# Altium integrated library ZMDI Sensor Signal Conditioner.IntLib: 63 symbols (part 3 of 3)
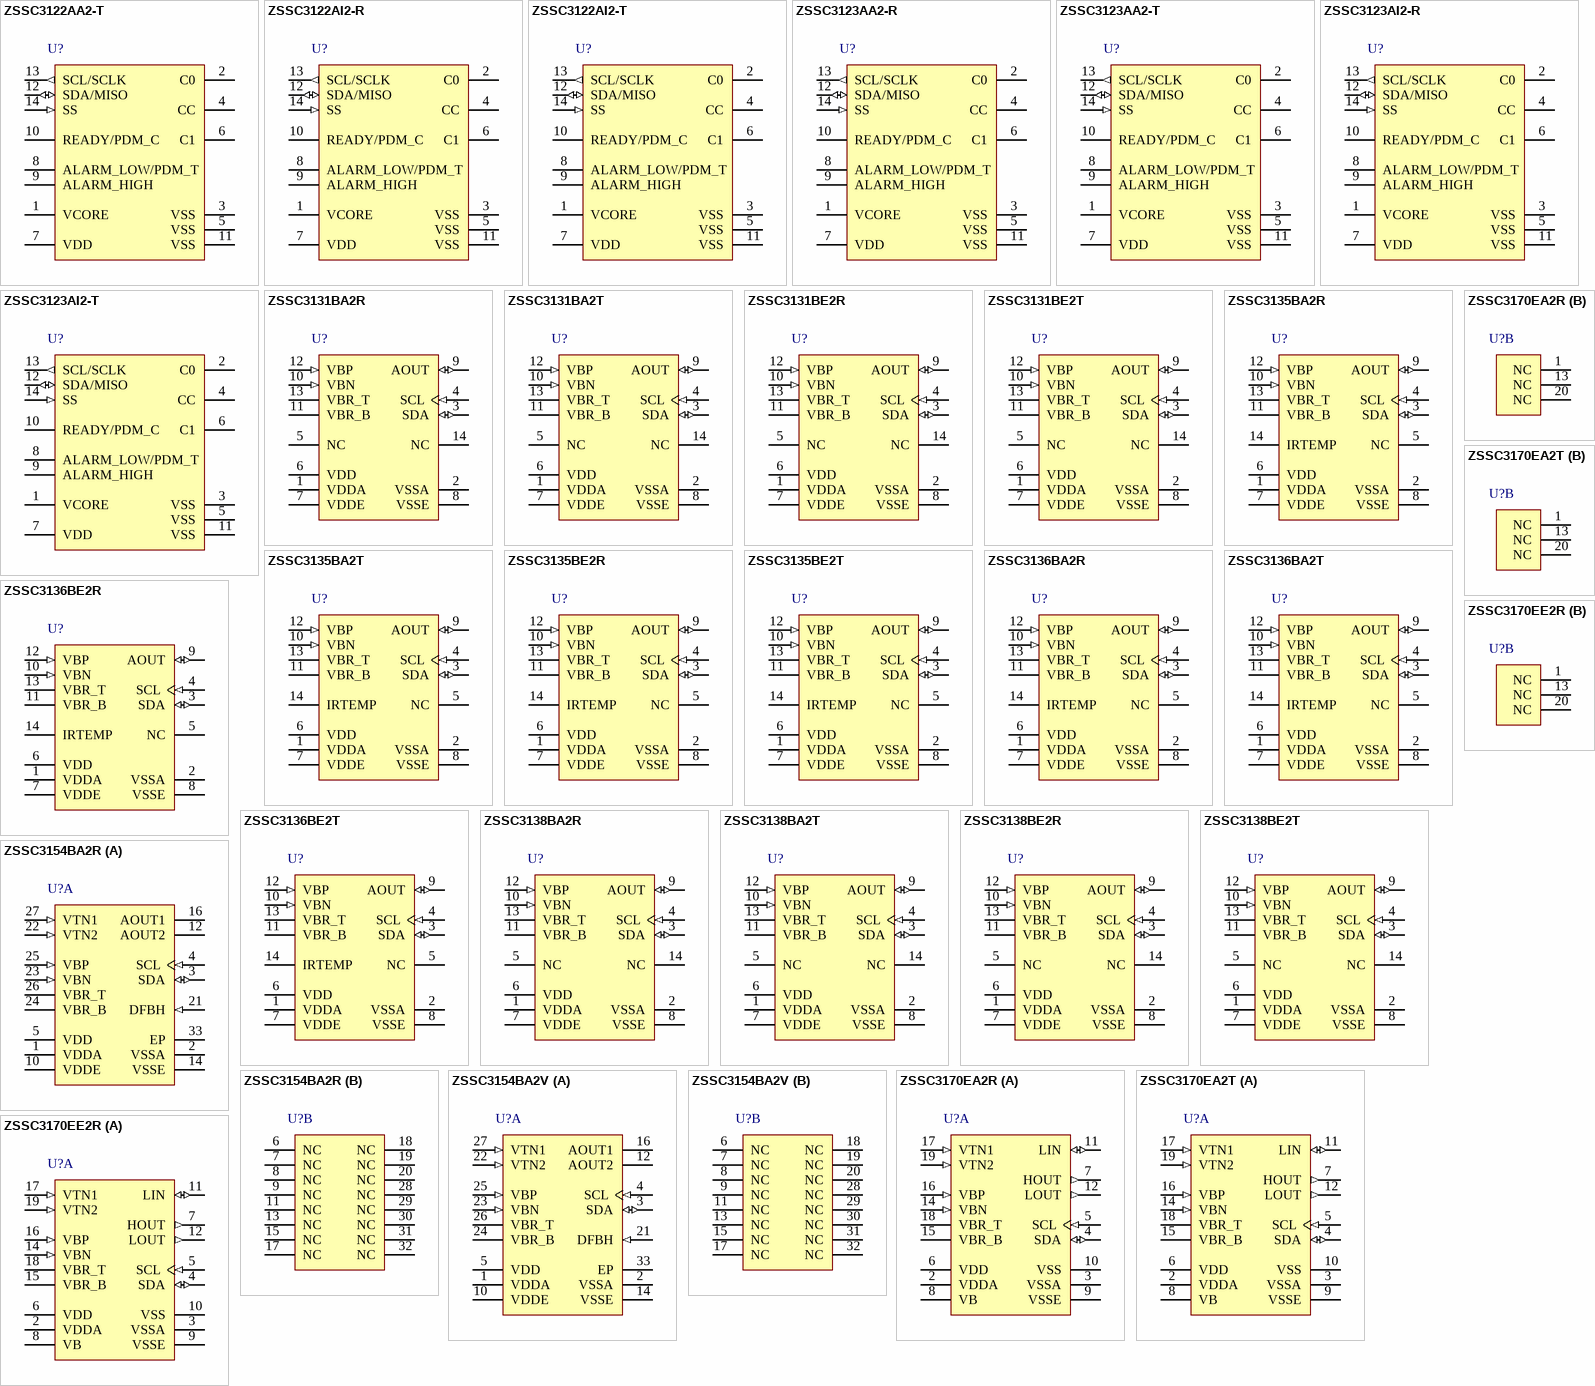
[diagram p4: symbols ZSSC3122AA2-T to ZSSC3170EE2R]

## ZSSC3138BE2T
designator U?
Sensor Signal Conditioner for Ceramic Sensor Applications, 4.5 to 5.5 V Supply Voltage, -40 to 150 degC, 14-Pin SSOP, Tube, RoHS; Manufacturer: ZMDI; PartNumber: ZSSC3138BE2T; ADC Resolution: 16; Adjustable Analog Gain Values: 2.8 to 420; DatasheetVersion: Rev. 1.21; PackageReference: SSOP14; PackageDescription: 14-Pin Shrink Small Outline Package, 6.2 x 5.29 mm Body, 0.65 mm Pitch; Supplier 1: Mouser; Supplier Part Number 1: 964-ZSSC3138BE2T; Mounting Technology: Surface Mount; ComponentLink1Description: Manufacturer URL; ComponentLink1URL: http://www.zmdi.com/; ComponentLink2Description: Datasheet; ComponentLink2URL: http://zmdi.cdistore.com/datasheets/zmdi/ZSSC3138_Data_Sheet_Rev_1_21_2013-02-15.pdf; ComponentLink3Description: Package Specification; ComponentLink3URL: http://zmdi.cdistore.com/datasheets/zmdi/ZSC31150_Data_Sheet_Rev_2_00_2012-10-15.pdf
footprint ZMDI-SSOP14_N (SOP, 14-Leads, Body 6.3x5.4mm, Pitch 0.65mm, IPC Medium Density)
footprint ZMDI-SSOP14_L (SOP, 14-Leads, Body 6.3x5.4mm, Pitch 0.65mm, IPC High Density)
footprint ZMDI-SSOP14_M (SOP, 14-Leads, Body 6.3x5.4mm, Pitch 0.65mm, IPC Low Density)
pins: 1 VDDA (power) "Positive Analog Supply Voltage", 2 VSSA (power) "Negative Analog Supply Voltage", 3 SDA (io) "I2C(TM) Serial Data", 4 SCL (in) "I2C(TM) Clock", 5 NC "Not connected", 6 VDD (power) "Positive Digital Supply Voltage", 7 VDDE (power) "Positive External Supply Voltage", 8 VSSE (power) "Negative External Supply Voltage", 9 AOUT (io) "Analog Output and ZACwire(TM) Serial Data", 10 VBN (in) "Negative Input from Sensor Bridge", 11 VBR_B (power) "Negative Sensor Bridge Supply Voltage", 12 VBP (in) "Positive Input from Sensor Bridge", 13 VBR_T (power) "Positive Sensor Bridge Supply Voltage", 14 NC "Not connected"

## ZSSC3154BA2R
designator U?
Automotive Sensor Signal Conditioner with Dual Analog Output, 4.5 to 5.5 V Supply Voltage, -40 to 125 degC, 32-Pin QFN, Reel, RoHS; Manufacturer: ZMDI; PartNumber: ZSSC3154BA2R; ADC Resolution: 14; Adjustable Analog Gain Values: 2.8 to 420; DatasheetVersion: Rev. 1.30; PackageReference: QFN32; PackageDescription: 32-Pin Plastic Quad Flatpack, No Leads, 5 x 5 mm Body, 0.5 mm Pitch, 3.5 x 3.5 mm Exposed Pad; Supplier 1: Mouser; Supplier Part Number 1: 964-ZSSC3154BA2R; Mounting Technology: Surface Mount; ComponentLink1Description: Manufacturer URL; ComponentLink1URL: http://www.zmdi.com/; ComponentLink2Description: Datasheet; ComponentLink2URL: http://zmdi.cdistore.com/datasheets/zmdi/ZSSC3154_Data_Sheet_Rev_1_30_2013-08-29-B.pdf; ComponentLink3Description: Package Specification; ComponentLink3URL: http://zmdi.cdistore.com/datasheets/zmdi/ZSSC3154_Data_Sheet_Rev_1_30_2013-08-29-B.pdf
footprint ZMDI-QFN32_N (QFN, 32-Leads, Body 5.1x5.1mm, Pitch 0.5mm, Thermal Pad 3.5x3.5mm, IPC Medium Density)
footprint ZMDI-QFN32_L (QFN, 32-Leads, Body 5.1x5.1mm, Pitch 0.5mm, Thermal Pad 3.5x3.5mm, IPC High Density)
footprint ZMDI-QFN32_M (QFN, 32-Leads, Body 5.1x5.1mm, Pitch 0.5mm, Thermal Pad 3.5x3.5mm, IPC Low Density)
part A pins: 1 VDDA (power) "Positive Analog Supply Voltage", 2 VSSA (power) "Negative Analog Supply Voltage", 3 SDA (io) "I2C Data I/O", 4 SCL (in) "I2C Clock", 5 VDD (power) "Positive Digital Supply Voltage", 10 VDDE (power) "Positive External Supply Voltage", 12 AOUT2 (hiz) "Analog Output 2", 14 VSSE (power) "External Ground", 16 AOUT1 (hiz) "Analog Output 1", 21 DFBH (in) "Diagnostic Fault Band Mode Select", 22 VTN2 (in) "External Temperature Sensor 2", 23 VBN (in) "Negative Bridge Sensor Input", 24 VBR_B (power) "Negative Bridge Supply Voltage (Bottom)", 25 VBP (in) "Positive Bridge Sensor Input", 26 VBR_T (power) "Positive Bridge Supply Voltage (Top)", 27 VTN1 (in) "External Temperature Sensor 1", 33 EP (power)
part B pins: 6 NC, 7 NC, 8 NC, 9 NC, 11 NC, 13 NC, 15 NC, 17 NC, 18 NC, 19 NC, 20 NC, 28 NC, 29 NC, 30 NC, 31 NC, 32 NC

## ZSSC3154BA2V
designator U?
Automotive Sensor Signal Conditioner with Dual Analog Output, 4.5 to 5.5 V Supply Voltage, -40 to 125 degC, 32-Pin QFN, Tray, RoHS; Manufacturer: ZMDI; PartNumber: ZSSC3154BA2V; ADC Resolution: 14; Adjustable Analog Gain Values: 2.8 to 420; DatasheetVersion: Rev. 1.30; PackageReference: QFN32; PackageDescription: 32-Pin Plastic Quad Flatpack, No Leads, 5 x 5 mm Body, 0.5 mm Pitch, 3.5 x 3.5 mm Exposed Pad; Supplier 1: Mouser; Supplier Part Number 1: 964-ZSSC3154BA2V; Mounting Technology: Surface Mount; ComponentLink1Description: Manufacturer URL; ComponentLink1URL: http://www.zmdi.com/; ComponentLink2Description: Datasheet; ComponentLink2URL: http://zmdi.cdistore.com/datasheets/zmdi/ZSSC3154_Data_Sheet_Rev_1_30_2013-08-29-B.pdf; ComponentLink3Description: Package Specification; ComponentLink3URL: http://zmdi.cdistore.com/datasheets/zmdi/ZSSC3154_Data_Sheet_Rev_1_30_2013-08-29-B.pdf
footprint ZMDI-QFN32_N (QFN, 32-Leads, Body 5.1x5.1mm, Pitch 0.5mm, Thermal Pad 3.5x3.5mm, IPC Medium Density)
footprint ZMDI-QFN32_L (QFN, 32-Leads, Body 5.1x5.1mm, Pitch 0.5mm, Thermal Pad 3.5x3.5mm, IPC High Density)
footprint ZMDI-QFN32_M (QFN, 32-Leads, Body 5.1x5.1mm, Pitch 0.5mm, Thermal Pad 3.5x3.5mm, IPC Low Density)
part A pins: 1 VDDA (power) "Positive Analog Supply Voltage", 2 VSSA (power) "Negative Analog Supply Voltage", 3 SDA (io) "I2C Data I/O", 4 SCL (in) "I2C Clock", 5 VDD (power) "Positive Digital Supply Voltage", 10 VDDE (power) "Positive External Supply Voltage", 12 AOUT2 (hiz) "Analog Output 2", 14 VSSE (power) "External Ground", 16 AOUT1 (hiz) "Analog Output 1", 21 DFBH (in) "Diagnostic Fault Band Mode Select", 22 VTN2 (in) "External Temperature Sensor 2", 23 VBN (in) "Negative Bridge Sensor Input", 24 VBR_B (power) "Negative Bridge Supply Voltage (Bottom)", 25 VBP (in) "Positive Bridge Sensor Input", 26 VBR_T (power) "Positive Bridge Supply Voltage (Top)", 27 VTN1 (in) "External Temperature Sensor 1", 33 EP (power)
part B pins: 6 NC, 7 NC, 8 NC, 9 NC, 11 NC, 13 NC, 15 NC, 17 NC, 18 NC, 19 NC, 20 NC, 28 NC, 29 NC, 30 NC, 31 NC, 32 NC

## ZSSC3170EA2R
designator U?
Automotive Sensor Signal Conditioner with LIN and PWM Interface, 7 to18 V Supply Voltage, -40 to 125 degC, 20-Pin SSOP, Reel, RoHS; Manufacturer: ZMDI; PartNumber: ZSSC3170EA2R; ADC Resolution: 14; Adjustable Analog Gain Values: 2.8 to 420; DatasheetVersion: Rev. 2.40; PackageReference: SSOP20; PackageDescription: 20-Pin Shrink Small Outline Package, 7.2 x 5.29 mm Body, 0.65 mm Pitch; Supplier 1: Mouser; Supplier Part Number 1: 964-ZSSC3170EA2-R; Mounting Technology: Surface Mount; ComponentLink1Description: Manufacturer URL; ComponentLink1URL: http://www.zmdi.com/; ComponentLink2Description: Datasheet; ComponentLink2URL: http://www.zmdi.com/sites/default/files/ZSSC3170_Data_Sheet_Rev_2_40_2014-01-22.pdf; ComponentLink3Description: Package Specification; ComponentLink3URL: http://www.zmdi.com/sites/default/files/ZSSC3170_Data_Sheet_Rev_2_40_2014-01-22.pdf
footprint ZMDI-SSOP20_N (SOP, 20-Leads, Body 7.3x5.4mm, Pitch 0.65mm, IPC Medium Density)
footprint ZMDI-SSOP20_L (SOP, 20-Leads, Body 7.3x5.4mm, Pitch 0.65mm, IPC High Density)
footprint ZMDI-SSOP20_M (SOP, 20-Leads, Body 7.3x5.4mm, Pitch 0.65mm, IPC Low Density)
part A pins: 2 VDDA (power) "Positive Analog Supply Voltage", 3 VSSA (power) "Negative Analog Supply Voltage", 4 SDA (io) "I2C(TM) Data I/O", 5 SCL (in) "I2C(TM) Clock", 6 VDD (power) "Positive Digital Supply Voltage", 7 HOUT (out) "PWM High-Side Switch", 8 VB (power) "Positive External Supply Voltage", 9 VSSE (power) "External Ground (PWM Modes)", 10 VSS (power) "Ground (LIN Mode)", 11 LIN (io), 12 LOUT (out) "PWM Low-Side Switch", 14 VBN (in) "Negative Input Sensor Bridge", 15 VBR_B (power) "Negative (Bottom) Bridge Supply Voltage", 16 VBP (in) "Positive Input Sensor Bridge", 17 VTN1 (in) "Temperature Sensor 1", 18 VBR_T (power) "Positive (Top) Bridge Supply Voltage", 19 VTN2 (in) "Temperature Sensor 2"
part B pins: 1 NC "No connection", 13 NC "No connection", 20 NC "No connection"

## ZSSC3170EA2T
designator U?
Automotive Sensor Signal Conditioner with LIN and PWM Interface, 7 to18 V Supply Voltage, -40 to 125 degC, 20-Pin SSOP, Tube, RoHS; Manufacturer: ZMDI; PartNumber: ZSSC3170EA2T; ADC Resolution: 14; Adjustable Analog Gain Values: 2.8 to 420; DatasheetVersion: Rev. 2.40; PackageReference: SSOP20; PackageDescription: 20-Pin Shrink Small Outline Package, 7.2 x 5.29 mm Body, 0.65 mm Pitch; Supplier 1: Mouser; Supplier Part Number 1: 964-ZSSC3170EA2-T; Mounting Technology: Surface Mount; ComponentLink1Description: Manufacturer URL; ComponentLink1URL: http://www.zmdi.com/; ComponentLink2Description: Datasheet; ComponentLink2URL: http://www.zmdi.com/sites/default/files/ZSSC3170_Data_Sheet_Rev_2_40_2014-01-22.pdf; ComponentLink3Description: Package Specification; ComponentLink3URL: http://www.zmdi.com/sites/default/files/ZSSC3170_Data_Sheet_Rev_2_40_2014-01-22.pdf
footprint ZMDI-SSOP20_N (SOP, 20-Leads, Body 7.3x5.4mm, Pitch 0.65mm, IPC Medium Density)
footprint ZMDI-SSOP20_L (SOP, 20-Leads, Body 7.3x5.4mm, Pitch 0.65mm, IPC High Density)
footprint ZMDI-SSOP20_M (SOP, 20-Leads, Body 7.3x5.4mm, Pitch 0.65mm, IPC Low Density)
part A pins: 2 VDDA (power) "Positive Analog Supply Voltage", 3 VSSA (power) "Negative Analog Supply Voltage", 4 SDA (io) "I2C(TM) Data I/O", 5 SCL (in) "I2C(TM) Clock", 6 VDD (power) "Positive Digital Supply Voltage", 7 HOUT (out) "PWM High-Side Switch", 8 VB (power) "Positive External Supply Voltage", 9 VSSE (power) "External Ground (PWM Modes)", 10 VSS (power) "Ground (LIN Mode)", 11 LIN (io), 12 LOUT (out) "PWM Low-Side Switch", 14 VBN (in) "Negative Input Sensor Bridge", 15 VBR_B (power) "Negative (Bottom) Bridge Supply Voltage", 16 VBP (in) "Positive Input Sensor Bridge", 17 VTN1 (in) "Temperature Sensor 1", 18 VBR_T (power) "Positive (Top) Bridge Supply Voltage", 19 VTN2 (in) "Temperature Sensor 2"
part B pins: 1 NC "No connection", 13 NC "No connection", 20 NC "No connection"

## ZSSC3170EE2R
designator U?
Automotive Sensor Signal Conditioner with LIN and PWM Interface, 7 to18 V Supply Voltage, -40 to 150 degC, 20-Pin SSOP, Reel, RoHS; Manufacturer: ZMDI; PartNumber: ZSSC3170EE2R; ADC Resolution: 14; Adjustable Analog Gain Values: 2.8 to 420; DatasheetVersion: Rev. 2.40; PackageReference: SSOP20; PackageDescription: 20-Pin Shrink Small Outline Package, 7.2 x 5.29 mm Body, 0.65 mm Pitch; Supplier 1: Mouser; Supplier Part Number 1: 964-ZSSC3170EE2-R; Mounting Technology: Surface Mount; ComponentLink1Description: Manufacturer URL; ComponentLink1URL: http://www.zmdi.com/; ComponentLink2Description: Datasheet; ComponentLink2URL: http://www.zmdi.com/sites/default/files/ZSSC3170_Data_Sheet_Rev_2_40_2014-01-22.pdf; ComponentLink3Description: Package Specification; ComponentLink3URL: http://www.zmdi.com/sites/default/files/ZSSC3170_Data_Sheet_Rev_2_40_2014-01-22.pdf
footprint ZMDI-SSOP20_N (SOP, 20-Leads, Body 7.3x5.4mm, Pitch 0.65mm, IPC Medium Density)
footprint ZMDI-SSOP20_L (SOP, 20-Leads, Body 7.3x5.4mm, Pitch 0.65mm, IPC High Density)
footprint ZMDI-SSOP20_M (SOP, 20-Leads, Body 7.3x5.4mm, Pitch 0.65mm, IPC Low Density)
part A pins: 2 VDDA (power) "Positive Analog Supply Voltage", 3 VSSA (power) "Negative Analog Supply Voltage", 4 SDA (io) "I2C(TM) Data I/O", 5 SCL (in) "I2C(TM) Clock", 6 VDD (power) "Positive Digital Supply Voltage", 7 HOUT (out) "PWM High-Side Switch", 8 VB (power) "Positive External Supply Voltage", 9 VSSE (power) "External Ground (PWM Modes)", 10 VSS (power) "Ground (LIN Mode)", 11 LIN (io), 12 LOUT (out) "PWM Low-Side Switch", 14 VBN (in) "Negative Input Sensor Bridge", 15 VBR_B (power) "Negative (Bottom) Bridge Supply Voltage", 16 VBP (in) "Positive Input Sensor Bridge", 17 VTN1 (in) "Temperature Sensor 1", 18 VBR_T (power) "Positive (Top) Bridge Supply Voltage", 19 VTN2 (in) "Temperature Sensor 2"
part B pins: 1 NC "No connection", 13 NC "No connection", 20 NC "No connection"

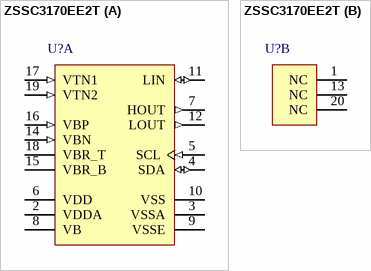
[diagram p2: symbol ZSSC3170EE2T]

## ZSSC3170EE2T
designator U?
Automotive Sensor Signal Conditioner with LIN and PWM Interface, 7 to18 V Supply Voltage, -40 to 150 degC, 20-Pin SSOP, Tube, RoHS; Manufacturer: ZMDI; PartNumber: ZSSC3170EE2T; ADC Resolution: 14; Adjustable Analog Gain Values: 2.8 to 420; DatasheetVersion: Rev. 2.40; PackageReference: SSOP20; PackageDescription: 20-Pin Shrink Small Outline Package, 7.2 x 5.29 mm Body, 0.65 mm Pitch; Supplier 1: Mouser; Supplier Part Number 1: 964-ZSSC3170EE2-T; Mounting Technology: Surface Mount; ComponentLink1Description: Manufacturer URL; ComponentLink1URL: http://www.zmdi.com/; ComponentLink2Description: Datasheet; ComponentLink2URL: http://www.zmdi.com/sites/default/files/ZSSC3170_Data_Sheet_Rev_2_40_2014-01-22.pdf; ComponentLink3Description: Package Specification; ComponentLink3URL: http://www.zmdi.com/sites/default/files/ZSSC3170_Data_Sheet_Rev_2_40_2014-01-22.pdf
footprint ZMDI-SSOP20_N (SOP, 20-Leads, Body 7.3x5.4mm, Pitch 0.65mm, IPC Medium Density)
footprint ZMDI-SSOP20_L (SOP, 20-Leads, Body 7.3x5.4mm, Pitch 0.65mm, IPC High Density)
footprint ZMDI-SSOP20_M (SOP, 20-Leads, Body 7.3x5.4mm, Pitch 0.65mm, IPC Low Density)
part A pins: 2 VDDA (power) "Positive Analog Supply Voltage", 3 VSSA (power) "Negative Analog Supply Voltage", 4 SDA (io) "I2C(TM) Data I/O", 5 SCL (in) "I2C(TM) Clock", 6 VDD (power) "Positive Digital Supply Voltage", 7 HOUT (out) "PWM High-Side Switch", 8 VB (power) "Positive External Supply Voltage", 9 VSSE (power) "External Ground (PWM Modes)", 10 VSS (power) "Ground (LIN Mode)", 11 LIN (io), 12 LOUT (out) "PWM Low-Side Switch", 14 VBN (in) "Negative Input Sensor Bridge", 15 VBR_B (power) "Negative (Bottom) Bridge Supply Voltage", 16 VBP (in) "Positive Input Sensor Bridge", 17 VTN1 (in) "Temperature Sensor 1", 18 VBR_T (power) "Positive (Top) Bridge Supply Voltage", 19 VTN2 (in) "Temperature Sensor 2"
part B pins: 1 NC "No connection", 13 NC "No connection", 20 NC "No connection"